# Altium schematic symbol library Connectors.SchLib: 43 symbols
Pins are listed as number, name and electrical type; pins without a type are passive.

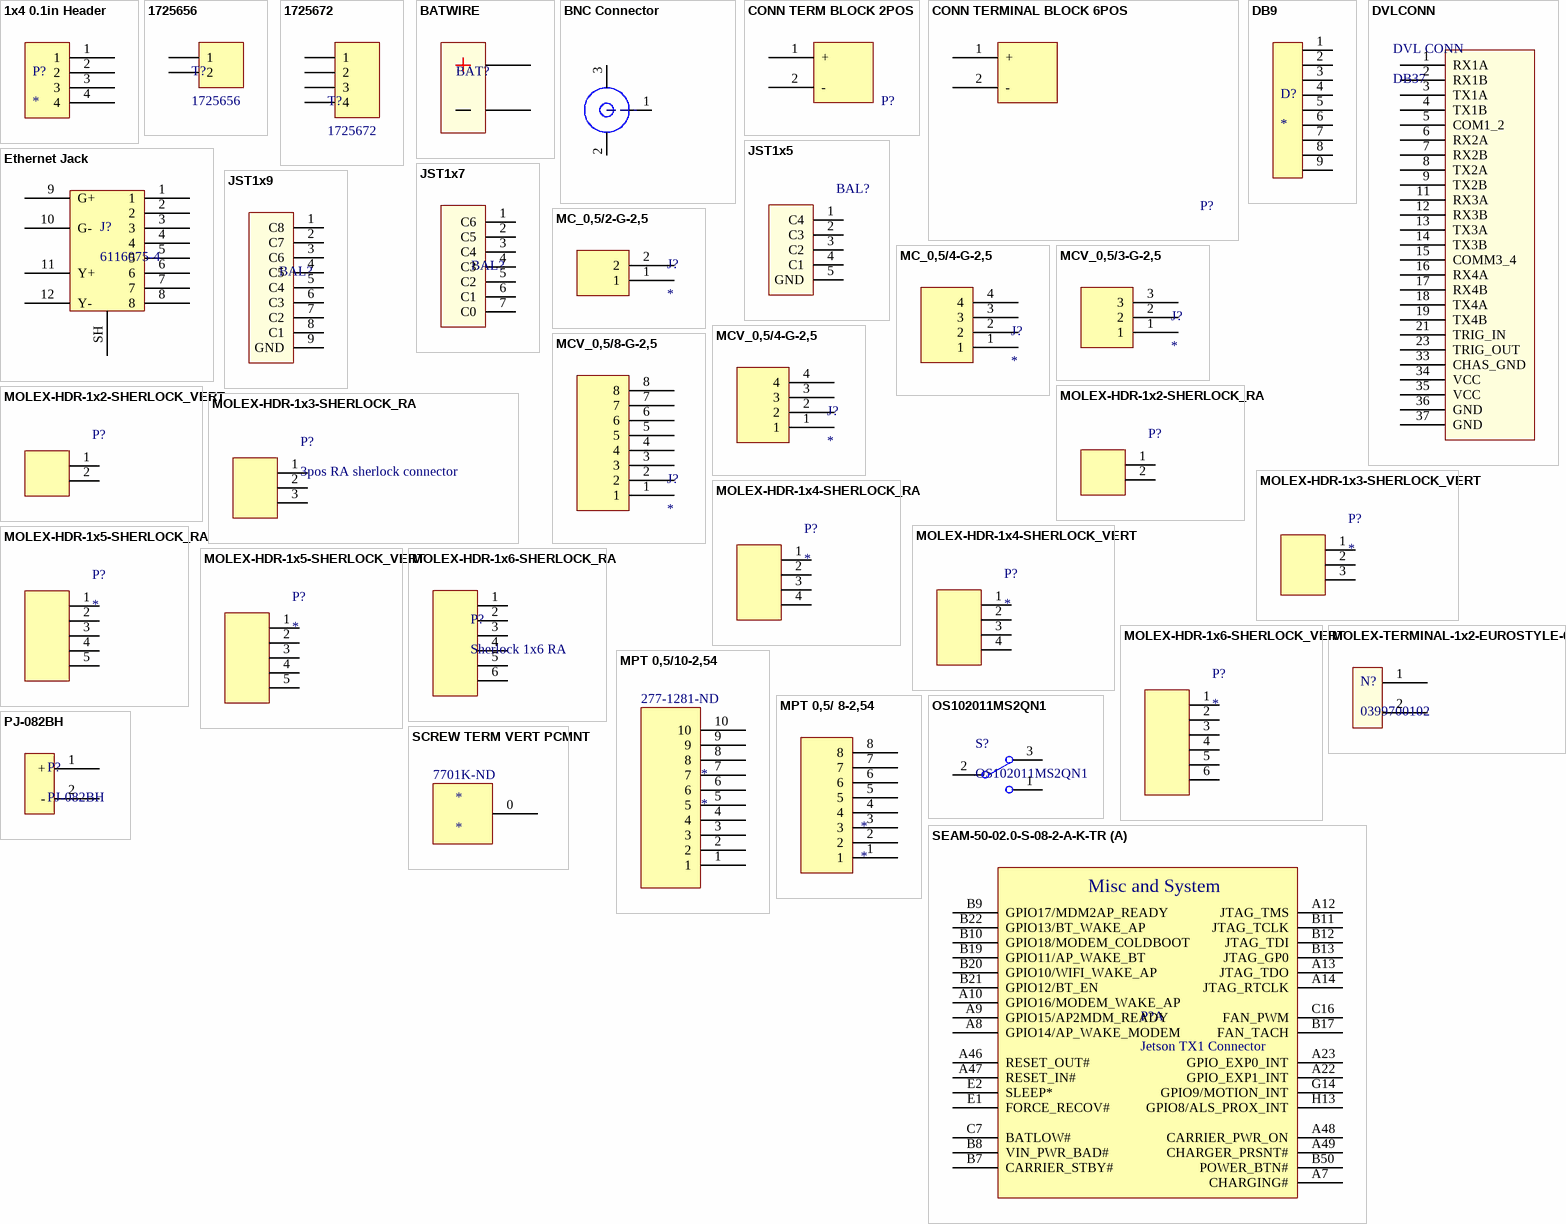
[diagram p0: symbols 1x4 0.1in Header to SEAM-50-02.0-S-08-2-A-K-TR]

## 1x4 0.1in Header
designator P?
footprint 1x4 0.1in Header
pins: 1, 2, 3, 4

## 1725656
designator T?
CONN TERM BLOCK 2.54MM 2POS; Supplier 1: Digi-Key; Supplier Part Number 1: 277-1273-ND
footprint 1725656 (CONN TERM BLOCK 2.54MM 2POS)
pins: 1, 2

## 1725672
designator T?
CONN TERM BLOCK 2.54MM 4POS; Supplier 1: Digi-Key; Supplier Part Number 1: 277-1275-ND
footprint 1725672 (CONN TERM BLOCK 2.54MM 2POS)
pins: 1, 2, 3, 4

## BATWIRE
designator BAT?  (value not drawn)
Two large gauge leads soldered directly to the board.
footprint BATWIRE12 (Two 12AWG wires soldered directly to the board)
footprint BATWIRE10 (Two 10AWG wires soldered directly to the board)
footprint BATWIRE12_WIDE (Two 12AWG wires soldered directly to the board)
pins: + (power), - (power)

## BNC Connector
designator P?, comment BNC
CONN BNC JACK R/A 50 OHM PCB; Suplier 1: Digi-Key; Supplier Part Number 1: WM5524-ND
footprint BNC Connector (For WM5524-ND)
pins: 1 Signal, 2 GND, 3 GND

## CONN TERM BLOCK 2POS
designator P?, comment WM5964-ND  (value not drawn)
CONN TERM BLOCK 2POS 10.16MM 60A; Supplier 1: Digi-Key; Supplier Part Number 1: WM5964-ND
footprint CONN TERM BLOCK 2POS (CONN TERM BLOCK 2POS 10.16MM 60A)
pins: 1 +, 2 -

## CONN TERMINAL BLOCK 6POS
designator P?, comment WM7862-ND  (value not drawn)
CONN TERMINAL BLOCK 6POS 3.5MM; Supplier 1: Digi-Key; Supplier Part Number 1: WM7862-ND
footprint CONN TERMINAL BLOCK 6POS (CONN TERMINAL BLOCK 6POS 3.5MM)
pins: 1 +, 2 -

## DB9
designator D?
DB9; Supplier 1: Digi-Key; Supplier Part Number 1: A32091-ND
footprint DB9 (CONN D-SUB PLUG 9POS R/A SOLDER)
pins: 1, 2, 3, 4, 5, 6, 7, 8, 9

## DVLCONN
designator DVL CONN, comment DB37
DVL Connector using DSUB37; Manufacturer: FCI; Manufacturer Part Number: 10090098-S374VLF; Supplier 1: Digikey; Supplier Part Number 1: 609-4001-ND
footprint DSUB37_ FEMALE (Connector; D Subminiature; 37 Position; Straight Female)
pins: 1 RX1A, 2 RX1B, 3 TX1A, 4 TX1B, 5 COM1_2, 6 RX2A, 7 RX2B, 8 TX2A, 9 TX2B, 11 RX3A, 12 RX3B, 13 TX3A, 14 TX3B, 15 COMM3_4, 16 RX4A, 17 RX4B, 18 TX4A, 19 TX4B, 21 TRIG_IN, 23 TRIG_OUT, 33 CHAS_GND, 34 VCC, 35 VCC, 36 GND, 37 GND

## Ethernet Jack
designator J?, comment 6116075-4
CONN MOD JACK 8P8C R/A SHIELDED; Manufacturer 1: TE; Supplier 1: Digi-Key; Supplier Part Number 1: 6116075-4-ND; Manufacturer Part Number 1: 6116075-4
footprint Ethernet Jack (CONN MOD JACK 8P8C R/A SHIELDED)
pins: 1, 2, 3, 4, 5, 6, 7, 8, 9 G+, 10 G-, 11 Y+, 12 Y-, SH

## JST1x5
designator BAL?  (value not drawn)
pins: 1 C4, 2 C3, 3 C2, 4 C1, 5 GND

## JST1x7
designator BAL?  (value not drawn)
CONN HEADER XH SIDE 7POS 2.5MM; Supplier 1: Digi-Key; Supplier Part Number 1: 455-2240-ND
footprint JST1x7
pins: 1 C6, 2 C5, 3 C4, 4 C3, 5 C2, 6 C1, 7 C0

## JST1x9
designator BAL?  (value not drawn)
Supplier 1: Digi-Key; Supplier Part Number 1: 455-2224-ND
footprint JST1x9
pins: 1 C8, 2 C7, 3 C6, 4 C5, 5 C4, 6 C3, 7 C2, 8 C1, 9 GND

## MC_0,5/2-G-2,5
designator J?
CONN TERM BLOCK 2.50MM 2POS, Right Angle, Through-Hole, 4A; Manufacturer 1: Phoenix Contact; Manufacturer Part Number 1: 1881448; Mating Connector: 277-1430-ND; Supplier 1: Digi-Key; Supplier Part Number 1: 277-1441-ND
footprint MC_0,5/2-G-2,5 (CONN TERM BLOCK 2.50MM 2POS RIGHT ANGLE)
pins: 1, 2

## MC_0,5/4-G-2,5
designator J?
CONN TERM BLOCK 2.50MM 4POS, Right Angle, Through-Hole, 4A; Manufacturer 1: Phoenix Contact; Manufacturer Part Number 1: 1881464; Mating Connector: 277-1432-ND; Supplier 1: Digi-Key; Supplier Part Number 1: 277-1443-ND
footprint MC_0,5/4-G-2,5 (CONN TERM BLOCK 2.50MM 4POS RIGHT ANGLE)
pins: 1, 2, 3, 4

## MCV_0,5/3-G-2,5
designator J?
CONN TERM BLOCK 2.50MM 3POS, Vertical, Through-Hole, 4A; Manufacturer 1: Phoenix Contact; Manufacturer Part Number 1: 1881561; Mating Connector: 277-1431-ND; Supplier 1: Digi-Key; Supplier Part Number 1: 277-1453-ND
footprint MCV_0,5/3-G-2,5 (CONN TERM BLOCK 2.50MM 3POS)
pins: 1, 2, 3

## MCV_0,5/4-G-2,5
designator J?
CONN TERM BLOCK 2.50MM 4POS, Vertical, Through-Hole, 4A
footprint MCV_0,5/4-G-2,5 (CONN TERM BLOCK 2.50MM 4POS)
pins: 1, 2, 3, 4

## MCV_0,5/8-G-2,5
designator J?
CONN TERM BLOCK 2.50MM 8POS, Vertical, Through-Hole, 4A
footprint MCV_0,5/8-G-2,5 (CONN TERM BLOCK 2.50MM 8POS)
pins: 1, 2, 3, 4, 5, 6, 7, 8

## MOLEX-HDR-1x2-SHERLOCK_RA
designator P?, comment 2-pin Horz Sherlock  (value not drawn)
Header, Molex, 2mm Pitch Sherlock Header, Single Row, Horizontal, 2 Circuits, Length 3.3mm,  0353630260; Manufacturer: Molex Inc; Manufacturer Part Number: 0353630260; Supplier Part Number 1: WM18931-ND; Supplier 1: Digi-Key
footprint MOLEX-HDR-1X2-SHERLOCK-HORZ
pins: 1, 2

## MOLEX-HDR-1x2-SHERLOCK_VERT
designator P?, comment 2-pin Vert Sherlock  (value not drawn)
Header, Molex, 2mm Pitch Sherlock Header, Single Row, Vertical, 2 Circuits, Length 3.3mm, 0353620250; Manufacturer Part Number: *; Order Part Number: *
footprint MOLEX-HDR-1X2-SHERLOCK-VERT
pins: 1, 2

## MOLEX-HDR-1x3-SHERLOCK_RA
designator P?, comment 3pos RA sherlock connector
Header, Molex, 2mm Pitch Sherlock Header, Single Row, Right Angle 3 Circuits, Length 3.3mm; Manufacturer Part Number: 35363-0360; Manufacturer: Molex Connector Corporation; Supplier Part Number 1: WM18932-ND; Supplier 1: Digi-Key
footprint MOLEX-HDR-1X3-SHERLOCK-RA
pins: 1, 2, 3

## MOLEX-HDR-1x3-SHERLOCK_VERT
designator P?
Header, Molex, 2mm Pitch Sherlock Header, Single Row, Vertical, 3 Circuits, Length 3.3mm, 0353620376; Manufacturer Part Number: *; Order Part Number: *
footprint MOLEX-HDR-1X3-SHERLOCK-VERT
pins: 1, 2, 3

## MOLEX-HDR-1x4-SHERLOCK_RA
designator P?
Header, Molex, 2mm Pitch Sherlock Header, Single Row, Horizontal, 4 Circuits, Length 3.3mm; Manufacturer Part Number: 0353630460; Supplier Part Number 1: WM18933-ND; Manufacturer: Molex; Supplier 1: Digikey
footprint MOLEX-HDR-1X4-SHERLOCK-VERT
footprint MOLEX-HDR-1X4-SHERLOCK-RA
pins: 1, 2, 3, 4

## MOLEX-HDR-1x4-SHERLOCK_VERT
designator P?
Header, Molex, 2mm Pitch Sherlock Header, Single Row, Vertical, 4 Circuits, Length 3.3mm, 0353620450; Manufacturer Part Number: *; Order Part Number: *
footprint MOLEX-HDR-1X4-SHERLOCK-VERT
pins: 1, 2, 3, 4

## MOLEX-HDR-1x5-SHERLOCK_RA
designator P?
Header, Molex, 2mm Pitch Sherlock Header, Single Row, Vertical, 5 Circuits, Length 3.3mm, 0353620550; Manufacturer Part Number: 0353630560; Supplier Part Number 1: WM18934-ND; Supplier 1: Digikey; Manufacturer: Molex
footprint MOLEX-HDR-1X5-SHERLOCK- RA
pins: 1, 2, 3, 4, 5

## MOLEX-HDR-1x5-SHERLOCK_VERT
designator P?
Header, Molex, 2mm Pitch Sherlock Header, Single Row, Vertical, 5 Circuits, Length 3.3mm, 0353620550; Manufacturer Part Number: *; Order Part Number: *
footprint MOLEX-HDR-1X5-SHERLOCK-VERT
pins: 1, 2, 3, 4, 5

## MOLEX-HDR-1x6-SHERLOCK_RA
designator P?, comment Sherlock 1x6 RA
CONN HEADER 6POS 2MM R/A TIN; Supplier 1: Digi-Key; Supplier Part Number 1: WM18935-ND
footprint MOLEX-HDR-1X6-SHERLOCK- RA
pins: 1, 2, 3, 4, 5, 6

## MOLEX-HDR-1x6-SHERLOCK_VERT
designator P?
Header, Molex, 2mm Pitch Sherlock Header, Single Row, Vertical, 6 Circuits, Length 3.3mm, 0353620650; Manufacturer Part Number: *; Order Part Number: *
footprint MOLEX-HDR-1X6-SHERLOCK-VERT
pins: 1, 2, 3, 4, 5, 6

## MOLEX-TERMINAL-1x2-EUROSTYLE-60A
designator N?, comment 0399700102
Giant 60A two position screw terminal; Supplier 1: Digi-Key; Supplier Part Number 1: WM3193-ND
footprint MOLEX-TERMINAL-1x2-EUROSTYLE-60A
footprint MOLEX-TERMINAL-1x2-EUROSTYLE-60A_Reversed
pins: 1, 2

## MPT 0,5/10-2,54
designator *  Supplier Part Number 1: 277-1281-ND
CONN TERM BLOCK 2.54MM 10POS; Supplier 1: Digi-Key
footprint MPT 0,5/10-2,54 (CONN TERM BLOCK 2.54MM 10POS)
pins: 1, 2, 3, 4, 5, 6, 7, 8, 9, 10

## MPT 0,5/ 8-2,54
designator *
CONN TERM BLOCK 2.54MM 8POS
footprint MPT 0,5/ 8-2,54 (CONN TERM BLOCK 2.54MM 8POS)
pins: 1, 2, 3, 4, 5, 6, 7, 8

## OS102011MS2QN1
designator S?
SWITCH SLIDE SPDT 100MA 12V; Supplier 1: Digi-Key; Supplier Part Number 1: CKN9565-ND
footprint OS102011MS2QN1 (SWITCH SLIDE SPDT 100MA 12V)
pins: 1, 2, 3

## PJ-082BH
designator P?
CONN PWR JACK 2.5X5.5MM PCB 10A; Manufacturer 1: CUI Inc; Supplier 1: Digi-Key; Supplier Part Number 1: CP-082BHCT-ND; Manufacturer Part Number 1: PJ-082BH
pins: 1 +, 2 -

## SCREW TERM VERT PCMNT
designator *  Supplier Part Number 1: 7701K-ND
Keystone Electronics 7701; Supplier 1: Digi-Key
footprint SCREW TERM SINGLE VERT (Keystone Electronics 7701 - TERM W/ASSEMBLD SCREW VERT PCMNT)
pins: 0 1

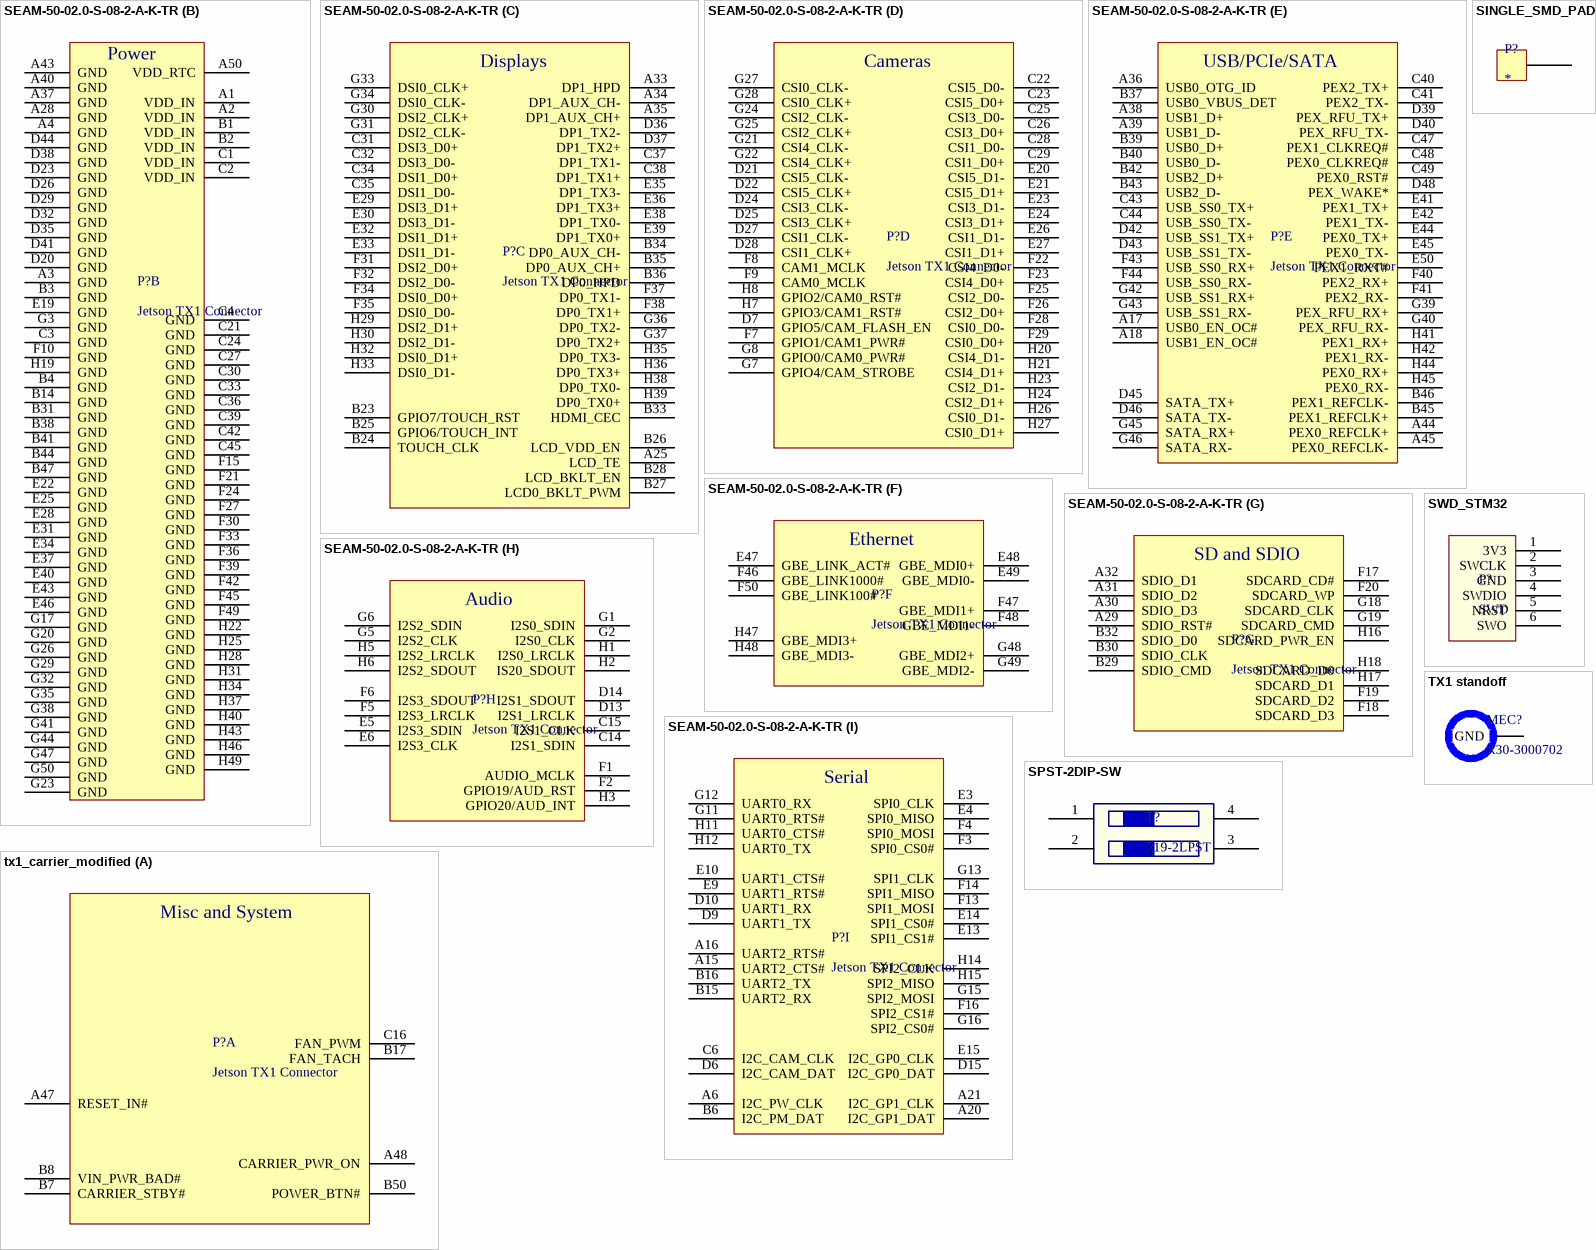
[diagram p1: symbols SEAM-50-02.0-S-08-2-A-K-TR to tx1_carrier_modified]

## SEAM-50-02.0-S-08-2-A-K-TR
designator P?, comment Jetson TX1 Connector
CONN MALE 400POS 8ROW SMD GOLD; Manufacturer 1: Samtec Inc; Manufacturer Part Number 1: SEAM-50-02.0-S-08-2-A-K-TR; Supplier 1: Digi-Key; Supplier Part Number 1: SEAM-50-02.0-S-08-2-A-K-TR-ND
footprint SEAM-50-02.0-S-08-2-A-K-TR (TX 1 carrier board connector)
part A pins: A5 RSVD hidden "Not Used", A7 CHARGING# "Charger Interrupt", A8 GPIO14/AP_WAKE_MODEM "AP (Tegra) Wake Modem", A9 GPIO15/AP2MDM_READY "AP (Tegra) to Modem Ready", A10 GPIO16/MODEM_WAKE_AP "Modem Wake AP", A11 RSVD hidden "Not Used", A12 JTAG_TMS "JTAG Test Mode Select", A13 JTAG_TDO "JTAG Test Data Out", A14 JTAG_RTCLK "JTAG Return Clock", A19 RSVD hidden "Not used", A22 GPIO_EXP1_INT "GPIO Expander 1 Interrupt", A23 GPIO_EXP0_INT "GPIO expander 0 Interrupt", A24 RSVD hidden "Not used", A26 RSVD hidden "Not used", A27 RSVD hidden "Not used", A41 RSVD hidden "Not used", A42 RSVD hidden "Not used", A46 RESET_OUT# "Reset from carrier board to Tegra & eMMC", A47 RESET_IN# "System Reset output from uill & input to initiate full PMIC reset", A48 CARRIER_PWR_ON "Carrier Power On", A49 CHARGER_PRSNT# "PMIC AC OK", B5 RSVD hidden "Not used", B7 CARRIER_STBY# "SOC Power Request", B8 VIN_PWR_BAD# "Input Power Bad", B9 GPIO17/MDM2AP_READY "Mode to AP (Tegra) Ready", B10 GPIO18/MODEM_COLDBOOT "Modem Coldboot", B11 JTAG_TCLK "JTAG Test Clock", B12 JTAG_TDI "JTAG Test Data In", B13 JTAG_GP0 "JTAG Test Reset", B17 FAN_TACH "Fan Tach", B18 RSVD hidden "Not used", B19 GPIO11/AP_WAKE_BT "LCD Enable", B20 GPIO10/WIFI_WAKE_AP "Wi-Fi 2 Wake AP (Tegra)", B21 GPIO12/BT_EN "BT 2 Enable", B22 GPIO13/BT_WAKE_AP "BT 2 Wake AP (Tegra)", B48 RSVD hidden "Not used", B49 RSVD hidden "Not used", B50 POWER_BTN# "Power on", C5 RSVD hidden "Not used", C7 BATLOW# "GPIO - Low Battery", C8 RSVD hidden "Not used", C9 RSVD hidden "Not used", C10 RSVD hidden "Not used", C11 RSVD hidden "Not used", C12 RSVD hidden "Not used", C13 RSVD hidden "Not used", C16 FAN_PWM "Fan PWM", C17 RSVD hidden "Not used", C18 RSVD hidden "Not used", C19 RSVD hidden "Not used", C20 RSVD hidden "Not used", C46 RSVD hidden "Not used", C50 RSVD hidden "Not used", D1 RSVD hidden "Not used", D2 RSVD hidden "Not used", D3 RSVD hidden "Not used", D4 RSVD hidden "Not used", D5 RSVD hidden "Not used", D8 RSVD hidden "Not used", D11 RSVD hidden "Not used", D12 RSVD hidden "Not used", D16 RSVD hidden "Not used", D17 RSVD hidden "Not used", D18 RSVD hidden "Not used", D19 RSVD hidden "Not used", D30 RSVD hidden "Not used", D31 RSVD hidden "Not used", D33 RSVD hidden "Not used", D34 RSVD hidden "Not used", D47 RSVD hidden "Not used", D49 RSVD hidden "Not used", D50 RSVD hidden "Not used", E1 FORCE_RECOV# "Force Recovery strap pin", E2 SLEEP* "Sleep input", E7 RSVD hidden "Not used", E8 RSVD hidden "Not used", E11 RSVD hidden "Not used", E12 RSVD hidden "Not used", E16 RSVD hidden "Not used", E17 RSVD hidden "Not used", E18 RSVD hidden "Not used", F11 RSVD hidden "Not used", F12 RSVD hidden "Not used", G4 RSVD hidden "Not used", G9 UART3_CTS# hidden "Not used", G10 UART3_RTS# hidden "Not used", G14 GPIO9/MOTION_INT "ICM20628 Gyro/Accel", H4 RSVD hidden "Not used", H9 UART3_RX hidden "Not used", H10 UART3_TX hidden "Not used", H13 GPIO8/ALS_PROX_INT "Proximity Sensor Interrupt", H50 RSVD hidden "Not Used"
part B pins: A1 VDD_IN "Main VDD Input", A2 VDD_IN "Main VDD Input", A3 GND, A4 GND, A28 GND, A37 GND, A40 GND, A43 GND, A50 VDD_RTC "Tegra Real Time Clock block power", B1 VDD_IN "Main VDD Input", B2 VDD_IN "Main VDD Input", B3 GND, B4 GND, B14 GND, B31 GND, B38 GND, B41 GND, B44 GND, B47 GND, C1 VDD_IN "Main VDD Input", C2 VDD_IN "Main VDD Input", C3 GND, C4 GND, C21 GND, C24 GND, C27 GND, C30 GND, C33 GND, C36 GND, C39 GND, C42 GND, C45 GND, D20 GND, D23 GND, D26 GND, D29 GND, D32 GND, D35 GND, D38 GND, D41 GND, D44 GND, E19 GND, E22 GND, E25 GND, E28 GND, E31 GND, E34 GND, E37 GND, E40 GND, E43 GND, E46 GND, F10 GND, F15 GND, F21 GND, F24 GND, F27 GND, F30 GND, F33 GND, F36 GND, F39 GND, F42 GND, F45 GND, F49 GND, G3 GND, G17 GND, G20 GND, G23 GND, G26 GND, G29 GND, G32 GND, G35 GND, G38 GND, G41 GND, G44 GND, G47 GND, G50 GND, H19 GND, H22 GND, H25 GND, H28 GND, H31 GND, H34 GND, H37 GND, H40 GND, H43 GND, H46 GND, H49 GND
part C pins: A25 LCD_TE "Display Tearing Effect", A33 DP1_HPD "Display Port 1 Hot Plug Detect", A34 DP1_AUX_CH- "Display Port 1 Aux- or HDMI DDC SDA", A35 DP1_AUX_CH+ "Display Port 1 Aux+ or HDMI DDC SCL", B23 GPIO7/TOUCH_RST "Touch Reset", B24 TOUCH_CLK "Touch Clock", B25 GPIO6/TOUCH_INT "Touch Interrupt", B26 LCD_VDD_EN "Dispay Reset", B27 LCD0_BKLT_PWM "Dispaly Backlight PWM", B28 LCD_BKLT_EN "Display Backlight Enable", B33 HDMI_CEC "HDMI CEC", B34 DP0_AUX_CH- "Display Port 0 Auxiliary Channel-", B35 DP0_AUX_CH+ "Display Port 0 Auxiliary Channel+", B36 DP0_HPD "Display Port 0 Hot Plug Detect", C31 DSI3_D0+ "Display, DSI 3 Data 2+", C32 DSI3_D0- "Display, DSI 3 Data 2-", C34 DSI1_D0+ "Display, DSI 1 Data 2+", C35 DSI1_D0- "Display, DSI 1 Data 2-", C37 DP1_TX1- "DisplayPort 1 Lane 1- / HDMI Lane 1-", C38 DP1_TX1+ "DisplayPort 1 Lane 1+ / HDMI Lane 1+", D36 DP1_TX2- "DisplayPort 1 Lane 2- / HDMI Lane 0-", D37 DP1_TX2+ "DisplayPort 1 Lane 2+ / HDMI Lane 0+", E29 DSI3_D1+ "Display, DSI 3 Data 3+", E30 DSI3_D1- "Display, DSI 3 Data 3-", E32 DSI1_D1+ "Display, DSI 1 Data 3+", E33 DSI1_D1- "Display, DSI 1 Data 3-", E35 DP1_TX3- "DisplayPort 1 Lane 3- / HDMI Clk Lane-", E36 DP1_TX3+ "DisplayPort 1 Lane 3+ / HDMI Clk Lane+", E38 DP1_TX0- "DisplayPort 1 Lane 0- / HDMI Lane 2-", E39 DP1_TX0+ "DisplayPort 1 Lane 0+ / HDMI Lane 2+", F31 DSI2_D0+ "Display, DSI 2 Data 0+", F32 DSI2_D0- "Display, DSI 2 Data 0-", F34 DSI0_D0+ "Display, DSI 0 Data 0+", F35 DSI0_D0- "Display DSI 0 Data 0-", F37 DP0_TX1- "Display Port 0 Data Lane 1-", F38 DP0_TX1+ "Display Port 0 Data Lane 1+", G30 DSI2_CLK+ "Display, DSI 2 Clock+", G31 DSI2_CLK- "Display, DSI 2 Clock-", G33 DSI0_CLK+ "Display, DSI 0 Clock+", G34 DSI0_CLK- "Display, DSI 0 Clock-", G36 DP0_TX2- "Display Port 0 Data Lane 2-", G37 DP0_TX2+ "Display Port 0 Data Lane 2+", H29 DSI2_D1+ "Display, DSI 2 Data 1+", H30 DSI2_D1- "Display, DSI 2 Data 1-", H32 DSI0_D1+ "Display, DSI 0 Data 1+", H33 DSI0_D1- "Display, DSI 0 Data 1-", H35 DP0_TX3- "Display Port 0 Data Lane 3-", H36 DP0_TX3+ "Display Port 0 Data Lane 3+", H38 DP0_TX0- "Display Port 0 Data Lane 0-", H39 DP0_TX0+ "Display Port 0 Data Lane 0+"
part D pins: C22 CSI5_D0- "Camera, CSI 5 Data 0-", C23 CSI5_D0+ "Camera, CSI 5 Data 0+", C25 CSI3_D0- "Camera, CSI 3 Data 0-", C26 CSI3_D0+ "Camera, CSI 3 Data 0+", C28 CSI1_D0- "Camera, CSI 1 Data 0-", C29 CSI1_D0+ "Camera, CSI 1 Data 0+", D7 GPIO5/CAM_FLASH_EN "Camera Flash Enable", D21 CSI5_CLK- "Camera, CSI 5 Clock-", D22 CSI5_CLK+ "Camera, CSI 5 Clock+", D24 CSI3_CLK- "Camera, CSI 3 Clock-", D25 CSI3_CLK+ "Camera, CSI 3 Clock+", D27 CSI1_CLK- "Camera, CSI 1 Clock-", D28 CSI1_CLK+ "Camera, CSI 1 Clock+", E20 CSI5_D1- "Camera, CSI 5 Data 1-", E21 CSI5_D1+ "Camera, CSI 5 Data 1+", E23 CSI3_D1- "Camera, CSI 3 Data 1-", E24 CSI3_D1+ "Camera, CSI 3 Data 1+", E26 CSI1_D1- "Camera, CSI 1 Data 1-", E27 CSI1_D1+ "Camera, CSI 1 Data 1+", F7 GPIO1/CAM1_PWR# "Camera 1 Powerdown", F8 CAM1_MCLK "Camera 1 Reference Clock", F9 CAM0_MCLK "Camera 0 Reference Clock", F22 CSI4_D0- "Camera, CSI 4 Clock-", F23 CSI4_D0+ "Camera, CSI 4 Clock+", F25 CSI2_D0- "Camera, CSI 2 Data 0-", F26 CSI2_D0+ "Camera, CSI 2 Data 0+", F28 CSI0_D0- "Camera, CSI 0 Data 0-", F29 CSI0_D0+ "Camera, CSI 0 Data 0+", G7 GPIO4/CAM_STROBE "Camera 1 Strobe", G8 GPIO0/CAM0_PWR# "Camera 1 Poweroff", G21 CSI4_CLK- "Camera, CSI 4 Clock-", G22 CSI4_CLK+ "Camera, CSI 4 Clock+", G24 CSI2_CLK- "Camera, CSI 2 Clock-", G25 CSI2_CLK+ "Camera, CSI 2 Clock+", G27 CSI0_CLK- "Camera, CSI 0 Clock-", G28 CSI0_CLK+ "Camera, CSI 0 Clock+", H7 GPIO3/CAM1_RST# "Camera Autofocus Enable", H8 GPIO2/CAM0_RST# "Camera Reset", H20 CSI4_D1- "Camera, CSI 4 Data 1-", H21 CSI4_D1+ "Camera, CSI 4 Data 1+", H23 CSI2_D1- "Camera, CSI 2 Data 1-", H24 CSI2_D1+ "Camera, CSI 2 Data 1+", H26 CSI0_D1- "Camera, CSI 0 Data 1+", H27 CSI0_D1+ "Camera, CSI 0 Data 1+"
part E pins: A17 USB0_EN_OC# "Micro USB VBUS Enable 0", A18 USB1_EN_OC# "USB 3.0 Type A, USB Enable 1", A36 USB0_OTG_ID "USB0 ID/VBUS EN", A38 USB1_D+ "USB 2.0, Port 1 Data+", A39 USB1_D- "USB 2.0, Port 1 Data-", A44 PEX0_REFCLK+ "PCIe Reference Clock 0+", A45 PEX0_REFCLK- "PCIe Reference Clock 0-", B37 USB0_VBUS_DET "USB0 VBUS", B39 USB0_D+ "Micro USB Data+", B40 USB0_D- "Micro USB Data-", B42 USB2_D+ "USB 2.0, Port 2 Data+", B43 USB2_D- "USB 2.0, Port 2 Data-", B45 PEX1_REFCLK+ "PCIe Reference Clock 1+", B46 PEX1_REFCLK- "PCIe Reference Clock 1-", C40 PEX2_TX+ "PCIe Lane 2 Transmit+", C41 PEX2_TX- "PCIe Lane 2 Transmit-", C43 USB_SS0_TX+ "USB 3.0 #0 Transmit+ (PCIe Lane 5)", C44 USB_SS0_TX- "USB 3.0 #0 Transmit- (PCIe Lane 5)", C47 PEX1_CLKREQ# "PCIE 1 Clock Request", C48 PEX0_CLKREQ# "PCIE 0 Clock Request", C49 PEX0_RST# "PCIe Reset 0", D39 PEX_RFU_TX+ "PCIe Lane RFU Transmit+", D40 PEX_RFU_TX- "PCIe Lane RFU Transmit-", D42 USB_SS1_TX+ "USB 3.0 #1 or PCIe Lane 3 Transmit+", D43 USB_SS1_TX- "USB 3.0 #1 or PCIe Lane 3 Transmit-", D45 SATA_TX+ "SATA Transmit+", D46 SATA_TX- "SATA Transmit-", D48 PEX_WAKE* "PCIe Wake", E41 PEX1_TX+ "PCIe Lane 1 Transmit+", E42 PEX1_TX- "PCIe Lane 1 Transmit-", E44 PEX0_TX+ "PCIe Lane 0 Transmit+", E45 PEX0_TX- "PCIe Lane 0 Transmit-", E50 PEX1_RXT# "PCIe 1 Reset", F40 PEX2_RX+ "PCIe Lane 2 Receive+", F41 PEX2_RX- "PCIe Lane 2 Receive-", F43 USB_SS0_RX+ "USB 3.0 #0 Receive+ (PCIe Lane 5)", F44 USB_SS0_RX- "USB 3.0 #0 Receive- (PCIe Lane 5)", G39 PEX_RFU_RX+ "PCIe Lane RFU Receive+", G40 PEX_RFU_RX- "PCIe Lane RFU Receive-", G42 USB_SS1_RX+ "USB 3.0 #1 or PCIe Lane 3 Receive+", G43 USB_SS1_RX- "USB 3.0 #1 or PCIe Lane 3 Receive-", G45 SATA_RX+ "SATA Receive+", G46 SATA_RX- "SATA Receive-", H41 PEX1_RX+ "PCIe Lane 1 Receive+", H42 PEX1_RX- "PCIe Lane 1 Receive-", H44 PEX0_RX+ "PCIe Lane 0 Receive+", H45 PEX0_RX- "PCIe Lane 0 Receive-"
part F pins: E47 GBE_LINK_ACT# "GbE RJ45 connector Link ACT LED0", E48 GBE_MDI0+ "GbE Transformer Data 0+", E49 GBE_MDI0- "GbE Transformer Data 0-", F46 GBE_LINK1000# "GbE RJ45 connector Link 1000 LED2", F47 GBE_MDI1+ "GbE Transformer Data 1+", F48 GBE_MDI1- "GbE Transformer Data 1-", F50 GBE_LINK100# "GbE RJ45 connector Link 100 LED1", G48 GBE_MDI2+ "GbE Transformer Data 2+", G49 GBE_MDI2- "GbE Transformer Data 2-", H47 GBE_MDI3+ "GbE Transformer Data 3+", H48 GBE_MDI3- "GbE Transformer Data 3-"
part G pins: A29 SDIO_RST# "SDIO Reset", A30 SDIO_D3 "SDIO Data 3", A31 SDIO_D2 "SDIO Data 2", A32 SDIO_D1 "SDIO Data 1", B29 SDIO_CMD "SDIO Command", B30 SDIO_CLK "SDIO Clock", B32 SDIO_D0 "SDIO Data 0", F17 SDCARD_CD# "SD Card Detect", F18 SDCARD_D3 "SD Card Data 3", F19 SDCARD_D2 "SD Card Data 2", F20 SDCARD_WP "SD Card Write Protect", G18 SDCARD_CLK "SD Card Clock", G19 SDCARD_CMD "SD Card Command", H16 SDCARD_PWR_EN "SD Card power switch Enable", H17 SDCARD_D1 "SD Card Data 1", H18 SDCARD_D0 "SD Card Data 0"
part H pins: C14 I2S1_SDIN "I2S Audio Port 1 Data In", C15 I2S1_CLK "I2S Audio Port 1 Clock", D13 I2S1_LRCLK "I2S Audio Port 1 Field Select", D14 I2S1_SDOUT "I2S Audio Port 1 Data Out", E5 I2S3_SDIN "I2S Audio Port 3 Data In", E6 I2S3_CLK "I2S Audio Port 3 Clock", F1 AUDIO_MCLK "Audio Codec Master Clock", F2 GPIO19/AUD_RST "Aidio Codec Reset", F5 I2S3_LRCLK "I2S Audio Port 3 Field Select", F6 I2S3_SDOUT "I2S Audio Port 3 Data Out", G1 I2S0_SDIN "Digital Audio Port 1 Data In", G2 I2S0_CLK "Digital Audio Port 1 Clock", G5 I2S2_CLK "Digital Audio Port 3 Clock", G6 I2S2_SDIN "Digital Audio Port 3 Data In", H1 I2S0_LRCLK "I2S Audio Port 0 Field Select", H2 IS20_SDOUT "I2S Audio Port 0 Data Out", H3 GPIO20/AUD_INT "Audio Codec Interrupt", H5 I2S2_LRCLK "I2S Audio Port 2 Field Select", H6 I2S2_SDOUT "I2S Audio Port 2 Data Out"
part I pins: A6 I2C_PW_CLK "PM I2C Bus Clock", A15 UART2_CTS# "UART 2 Clear to Send", A16 UART2_RTS# "UART 2 Request to Send", A20 I2C_GP1_DAT "General I2C Bus #1 Data", A21 I2C_GP1_CLK "General I2C Bus #1 Clock", B6 I2C_PM_DAT "PM I2C Bus Data", B15 UART2_RX "UART 2 Receive", B16 UART2_TX "UART 2 Transmit", C6 I2C_CAM_CLK "Camera I2C Clock", D6 I2C_CAM_DAT "Camera I2C Data", D9 UART1_TX "UART 1 Transmit", D10 UART1_RX "UART 1 Receive", D15 I2C_GP0_DAT "General I2C Bus #1 Data", E3 SPI0_CLK "SPI 0 Clock", E4 SPI0_MISO "SPI 0 MISO", E9 UART1_RTS# "Uart 1 Transmit", E10 UART1_CTS# "Uart 1 Receive", E13 SPI1_CS1# "SPI 1 CHip Select 1", E14 SPI1_CS0# "SPI 1 Chip Select 0", E15 I2C_GP0_CLK "General I2C Bus #0 Clock", F3 SPI0_CS0# "SPI 0 Chip Select 0", F4 SPI0_MOSI "SPI 0 MOSI", F13 SPI1_MOSI "SPI 1 MOSI", F14 SPI1_MISO "SPI 1 MISO", F16 SPI2_CS1# "SPI 2 Chip Select 1", G11 UART0_RTS# "UART 1 Return to Send", G12 UART0_RX "UART 1 Receive", G13 SPI1_CLK "SPI 1 Clock", G15 SPI2_MOSI "SPI 2 MOSI", G16 SPI2_CS0# "SPI 2 Chip Select 0", H11 UART0_CTS# "UART 0 Clear to Send", H12 UART0_TX "UART 0 Transmit", H14 SPI2_CLK "SPI 2 Clock", H15 SPI2_MISO "SPI 2 MISO"
part A text: Misc and System
part B text: Power
part C text: Displays
part D text: Cameras
part E text: USB/PCIe/SATA
part F text: Ethernet
part G text: SD and SDIO
part H text: Audio
part I text: Serial

## SINGLE_SMD_PAD
designator P?
footprint SINGLE_SMD_PAD
pins: 0

## SPST-2DIP-SW
designator P?, comment 219-2LPST
SWITCH TAPE SEAL 2 POS SMD 50V; Supplier 1: Digi-Key; Supplier Part Number 1: CT2192LPST-ND
footprint SPST-4N (For SPST-4DIP)
pins: 1, 2, 3, 4

## SWD_STM32
designator P?, comment SWD
SWD connector matching the pinout on STM Discovery Boards
footprint SWD_STM32 (SWD connector matching the pinout on STM Discovery Boards)
footprint SWD_STM32_SMD (SWD connector matching the pinout on STM Discovery Boards)
pins: 1 3V3, 2 SWCLK, 3 GND, 4 SWDIO, 5 NRST, 6 SWO

## TX1 standoff
designator MEC?, comment R30-3000702
HEX STANDOFF M3 BRASS 7MM; Manufacturer 1: Harwin, Inc; Manufacturer Part Number 1: R30-3000702; Supplier 1: Digi-Key; Supplier Part Number 1: 952-1498-ND
footprint R30-3000702 (HEX STANDOFF M3 BRASS 7MM)
pins: 1 GND

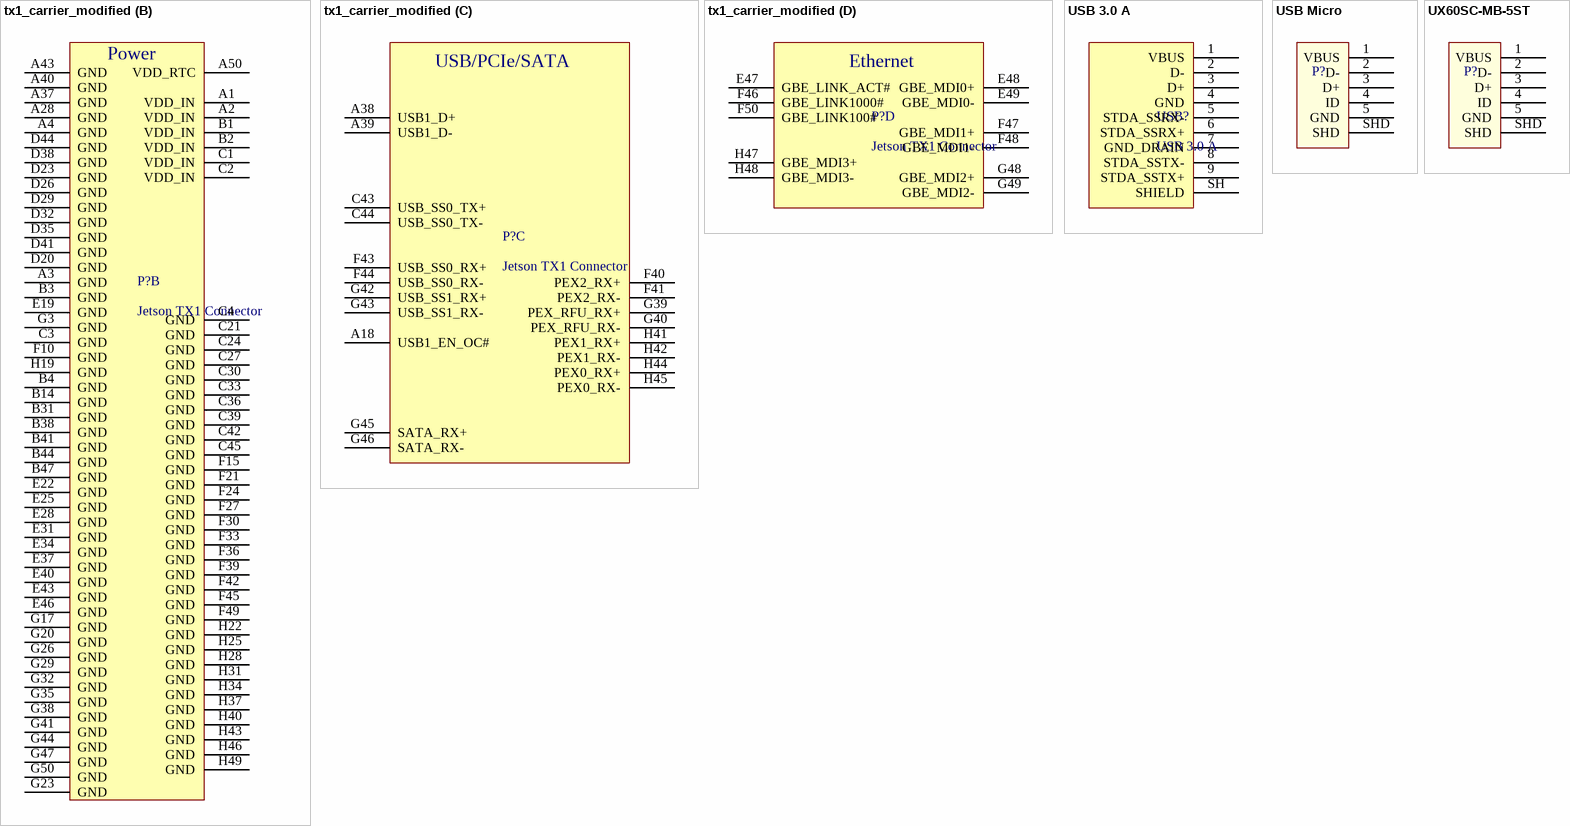
[diagram p2: symbols tx1_carrier_modified to UX60SC-MB-5ST]

## tx1_carrier_modified
designator P?, comment Jetson TX1 Connector
CONN MALE 400POS 8ROW SMD GOLD; Manufacturer 1: Samtec Inc; Manufacturer Part Number 1: SEAM-50-02.0-S-08-2-A-K-TR; Supplier 1: Digi-Key; Supplier Part Number 1: SEAM-50-02.0-S-08-2-A-K-TR-ND
footprint tx1_carrier_modified (TX 1 carrier board connector modified to remove pads)
part A pins: A47 RESET_IN# "System Reset output from uill & input to initiate full PMIC reset", A48 CARRIER_PWR_ON "Carrier Power On", B7 CARRIER_STBY# "SOC Power Request", B8 VIN_PWR_BAD# "Input Power Bad", B17 FAN_TACH "Fan Tach", B50 POWER_BTN# "Power on", C16 FAN_PWM "Fan PWM"
part B pins: A1 VDD_IN "Main VDD Input", A2 VDD_IN "Main VDD Input", A3 GND, A4 GND, A28 GND, A37 GND, A40 GND, A43 GND, A50 VDD_RTC "Tegra Real Time Clock block power", B1 VDD_IN "Main VDD Input", B2 VDD_IN "Main VDD Input", B3 GND, B4 GND, B14 GND, B31 GND, B38 GND, B41 GND, B44 GND, B47 GND, C1 VDD_IN "Main VDD Input", C2 VDD_IN "Main VDD Input", C3 GND, C4 GND, C21 GND, C24 GND, C27 GND, C30 GND, C33 GND, C36 GND, C39 GND, C42 GND, C45 GND, D20 GND, D23 GND, D26 GND, D29 GND, D32 GND, D35 GND, D38 GND, D41 GND, D44 GND, E19 GND, E22 GND, E25 GND, E28 GND, E31 GND, E34 GND, E37 GND, E40 GND, E43 GND, E46 GND, F10 GND, F15 GND, F21 GND, F24 GND, F27 GND, F30 GND, F33 GND, F36 GND, F39 GND, F42 GND, F45 GND, F49 GND, G3 GND, G17 GND, G20 GND, G23 GND, G26 GND, G29 GND, G32 GND, G35 GND, G38 GND, G41 GND, G44 GND, G47 GND, G50 GND, H19 GND, H22 GND, H25 GND, H28 GND, H31 GND, H34 GND, H37 GND, H40 GND, H43 GND, H46 GND, H49 GND
part C pins: A18 USB1_EN_OC# "USB 3.0 Type A, USB Enable 1", A38 USB1_D+ "USB 2.0, Port 1 Data+", A39 USB1_D- "USB 2.0, Port 1 Data-", C43 USB_SS0_TX+ "USB 3.0 #0 Transmit+ (PCIe Lane 5)", C44 USB_SS0_TX- "USB 3.0 #0 Transmit- (PCIe Lane 5)", F40 PEX2_RX+ "PCIe Lane 2 Receive+", F41 PEX2_RX- "PCIe Lane 2 Receive-", F43 USB_SS0_RX+ "USB 3.0 #0 Receive+ (PCIe Lane 5)", F44 USB_SS0_RX- "USB 3.0 #0 Receive- (PCIe Lane 5)", G39 PEX_RFU_RX+ "PCIe Lane RFU Receive+", G40 PEX_RFU_RX- "PCIe Lane RFU Receive-", G42 USB_SS1_RX+ "USB 3.0 #1 or PCIe Lane 3 Receive+", G43 USB_SS1_RX- "USB 3.0 #1 or PCIe Lane 3 Receive-", G45 SATA_RX+ "SATA Receive+", G46 SATA_RX- "SATA Receive-", H41 PEX1_RX+ "PCIe Lane 1 Receive+", H42 PEX1_RX- "PCIe Lane 1 Receive-", H44 PEX0_RX+ "PCIe Lane 0 Receive+", H45 PEX0_RX- "PCIe Lane 0 Receive-"
part D pins: E47 GBE_LINK_ACT# "GbE RJ45 connector Link ACT LED0", E48 GBE_MDI0+ "GbE Transformer Data 0+", E49 GBE_MDI0- "GbE Transformer Data 0-", F46 GBE_LINK1000# "GbE RJ45 connector Link 1000 LED2", F47 GBE_MDI1+ "GbE Transformer Data 1+", F48 GBE_MDI1- "GbE Transformer Data 1-", F50 GBE_LINK100# "GbE RJ45 connector Link 100 LED1", G48 GBE_MDI2+ "GbE Transformer Data 2+", G49 GBE_MDI2- "GbE Transformer Data 2-", H47 GBE_MDI3+ "GbE Transformer Data 3+", H48 GBE_MDI3- "GbE Transformer Data 3-"
part A text: Misc and System
part B text: Power
part C text: USB/PCIe/SATA
part D text: Ethernet

## USB 3.0 A
designator USB?
USB - A USB 3.0, Super Speed Receptacle Connector 9 Position Through Hole, Right Angle, Horizontal; Manufacturer Part Number 1: 483930003; Manufacturer 1: Molex; Supplier 1: Digi-Key; Supplier Part Number 1: WM10413CT-ND
footprint USB 3.0 A (0483930003)
pins: 1 VBUS, 2 D-, 3 D+, 4 GND, 5 STDA_SSRX-, 6 STDA_SSRX+, 7 GND_DRAIN, 8 STDA_SSTX-, 9 STDA_SSTX+, SH SHIELD

## USB Micro
designator P?  (value not drawn)
USB Mini B Metal Shield SMT; Supplier 1: Digi-Key; Supplier Part Number 1: 609-4613-1-ND
footprint 10118192-0001LF (USB Micro-B Recepticle)
pins: 1 VBUS, 2 D-, 3 D+, 4 ID, 5 GND, SHD

## UX60SC-MB-5ST
designator P?  (value not drawn)
USB Mini B Metal Shield SMT; Supplier 1: Digi-Key; Supplier Part Number 1: H11671CT-ND
footprint UX60SC-MB-5ST (USB Mini-B Recepticle)
pins: 1 VBUS, 2 D-, 3 D+, 4 ID, 5 GND, SHD